# EAGLE library part DS1307 (library synfinatic)
DS1307 RTC in a 8 pin DIP
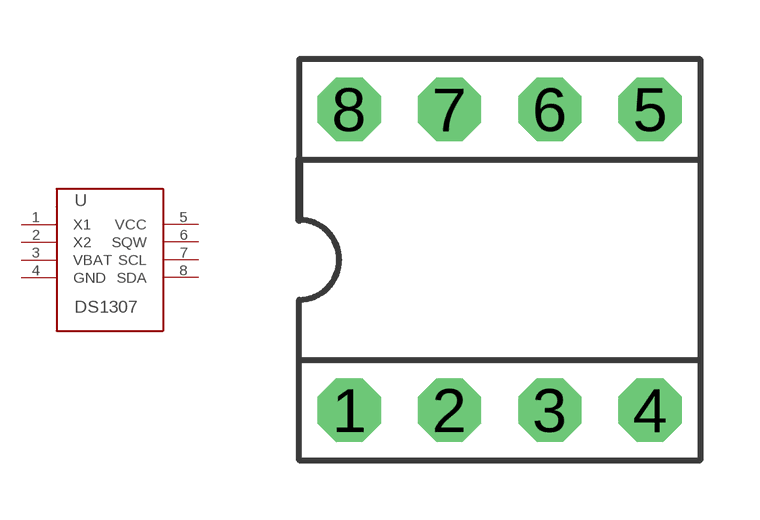
[diagram p1: symbol with the pads of DS1307-8DIP; footprint DS1307-8DIP]

Designator prefix -

## DS1307  [DS1307-8DIP]
1  X1
2  X2
3  VBAT
4  GND
5  VCC
6  SQW
7  SCL
8  SDA

## Footprint DS1307-8DIP (pad centres in mm)
Generic 8 pin DIP
drill 0.813 pad 1.6 octagon: 1 -3.81,-3.81; 2 -1.27,-3.81; 3 1.27,-3.81; 4 3.81,-3.81; 5 3.81,3.81; 6 1.27,3.81; 7 -1.27,3.81; 8 -3.81,3.81